# EAGLE library part TX4139 (library custom)
Buck Converter IC Adjustable 4.5-75V 2A
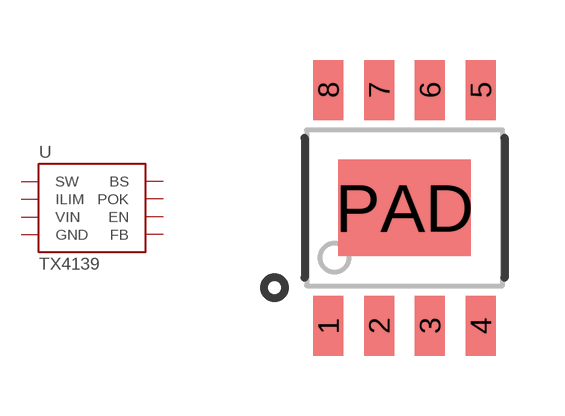
[diagram p153: symbol with the pads of 8-SOIC-EP; footprint 8-SOIC-EP]

Designator prefix U

## TX4139  [8-SOIC-EP]
1  SW
2  ILIM
3  VIN
4  GND
5  FB
6  EN
7  POK
8  BS
PAD  ILIM

## Footprint 8-SOIC-EP (pad centres in mm)
smd 0.75 x 1.5: 1 -1.905,-2.95; 2 -0.635,-2.95; 3 0.635,-2.95; 4 1.905,-2.95; 5 1.905,2.95; 6 0.635,2.95; 7 -0.635,2.95; 8 -1.905,2.95
smd 3.302 x 2.413: PAD 0,0